# EAGLE library part 2N7002DWA (library common)
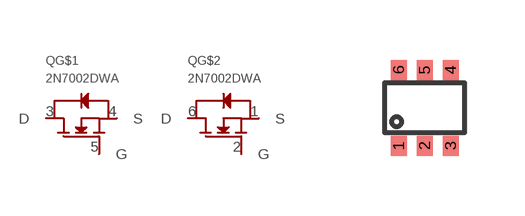
[diagram p39: symbol with the pads of SC70; footprint SC70]

Designator prefix Q; gates G$1=MOSFET_N G$2=MOSFET_N

## 2N7002DWA  [SC70]
1  G$2:S
2  G$2:G
3  G$1:D
4  G$1:S
5  G$1:G
6  G$2:D

## Footprint SC70 (pad centres in mm)
smd 0.4 x 0.5: 1 -0.65,-0.95; 2 0,-0.95; 3 0.65,-0.95; 4 0.65,0.95; 5 0,0.95; 6 -0.65,0.95